# Altium footprint library IC_Samsung_SIP-007AFS001_eec_0.PcbLib: 1 footprints
Each footprint in its own frame and in the unit in brackets; x right, y up, seen from the top. Pads: shape width x height; smd on the part's side, far side on the other; paste and mask are expansions set on the pad; w line width, h text height; cw(c..) or ccw(c..) is an arc to the next point about the centre after c.
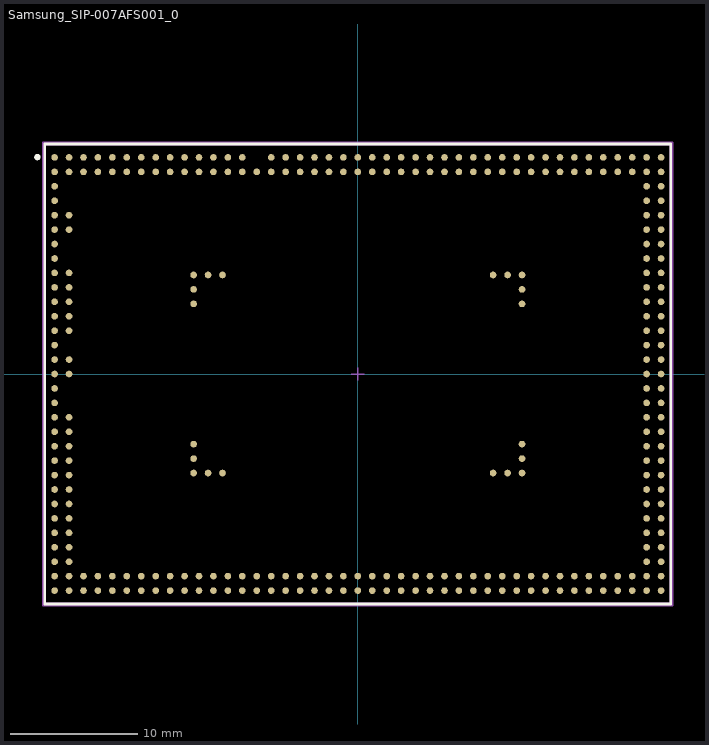
[diagram p0: the footprint, top view; thin cyan lines are the x and y axes]

## Samsung_SIP-007AFS001_0 [mm]
pads (292):
  round 0.52 smd paste+0 mask+0: PA1(-23.73,16.95) PA2(-22.6,16.95) PA3(-21.47,16.95) PA4(-20.34,16.95) PA5(-19.21,16.95) PA6(-18.08,16.95) PA7(-16.95,16.95) PA8(-15.82,16.95) PA9(-14.69,16.95) PA10(-13.56,16.95) PA11(-12.43,16.95) PA12(-11.3,16.95) PA13(-10.17,16.95) PA14(-9.04,16.95) PA16(-6.78,16.95) PA17(-5.65,16.95) PA18(-4.52,16.95) PA19(-3.39,16.95) PA20(-2.26,16.95) PA21(-1.13,16.95) PA22(0,16.95) PA23(1.13,16.95) PA24(2.26,16.95) PA25(3.39,16.95) PA26(4.52,16.95) PA27(5.65,16.95) PA28(6.78,16.95) PA29(7.91,16.95) PA30(9.04,16.95) PA31(10.17,16.95) PA32(11.3,16.95) PA33(12.43,16.95) PA34(13.56,16.95) PA35(14.69,16.95) PA36(15.82,16.95) PA37(16.95,16.95) PA38(18.08,16.95) PA39(19.21,16.95) PA40(20.34,16.95) PA41(21.47,16.95) PA42(22.6,16.95) PA43(23.73,16.95) PAA1(-23.73,-5.65) PAA2(-22.6,-5.65) PAA42(22.6,-5.65) PAA43(23.73,-5.65) PAB1(-23.73,-6.78) PAB2(-22.6,-6.78) PAB42(22.6,-6.78) PAB43(23.73,-6.78) PAC1(-23.73,-7.91) PAC2(-22.6,-7.91) PAC42(22.6,-7.91) PAC43(23.73,-7.91) PAD1(-23.73,-9.04) PAD2(-22.6,-9.04) PAD42(22.6,-9.04) PAD43(23.73,-9.04) PAE1(-23.73,-10.17) PAE2(-22.6,-10.17) PAE42(22.6,-10.17) PAE43(23.73,-10.17) PAF1(-23.73,-11.3) PAF2(-22.6,-11.3) PAF42(22.6,-11.3) PAF43(23.73,-11.3) PAG1(-23.73,-12.43) PAG2(-22.6,-12.43) PAG42(22.6,-12.43) PAG43(23.73,-12.43) PAH1(-23.73,-13.56) PAH2(-22.6,-13.56) PAH42(22.6,-13.56) PAH43(23.73,-13.56) PAJ1(-23.73,-14.69) PAJ2(-22.6,-14.69) PAJ42(22.6,-14.69) PAJ43(23.73,-14.69) PAK1(-23.73,-15.82) PAK2(-22.6,-15.82) PAK3(-21.47,-15.82) PAK4(-20.34,-15.82) PAK5(-19.21,-15.82) PAK6(-18.08,-15.82) PAK7(-16.95,-15.82) PAK8(-15.82,-15.82) PAK9(-14.69,-15.82) PAK10(-13.56,-15.82) PAK11(-12.43,-15.82) PAK12(-11.3,-15.82) PAK13(-10.17,-15.82) PAK14(-9.04,-15.82) PAK15(-7.91,-15.82) PAK16(-6.78,-15.82) PAK17(-5.65,-15.82) PAK18(-4.52,-15.82) PAK19(-3.39,-15.82) PAK20(-2.26,-15.82) PAK21(-1.13,-15.82) PAK22(0,-15.82) PAK23(1.13,-15.82) PAK24(2.26,-15.82) PAK25(3.39,-15.82) PAK26(4.52,-15.82) PAK27(5.65,-15.82) PAK28(6.78,-15.82) PAK29(7.91,-15.82) PAK30(9.04,-15.82) PAK31(10.17,-15.82) PAK32(11.3,-15.82) PAK33(12.43,-15.82) PAK34(13.56,-15.82) PAK35(14.69,-15.82) PAK36(15.82,-15.82) PAK37(16.95,-15.82) PAK38(18.08,-15.82) PAK39(19.21,-15.82) PAK40(20.34,-15.82) PAK41(21.47,-15.82) PAK42(22.6,-15.82) PAK43(23.73,-15.82) PAL1(-23.73,-16.95) PAL2(-22.6,-16.95) PAL3(-21.47,-16.95) PAL4(-20.34,-16.95) PAL5(-19.21,-16.95) PAL6(-18.08,-16.95) PAL7(-16.95,-16.95) PAL8(-15.82,-16.95) PAL9(-14.69,-16.95) PAL10(-13.56,-16.95) PAL11(-12.43,-16.95) PAL12(-11.3,-16.95) PAL13(-10.17,-16.95) PAL14(-9.04,-16.95) PAL15(-7.91,-16.95) PAL16(-6.78,-16.95) PAL17(-5.65,-16.95) PAL18(-4.52,-16.95) PAL19(-3.39,-16.95) PAL20(-2.26,-16.95) PAL21(-1.13,-16.95) PAL22(0,-16.95) PAL23(1.13,-16.95) PAL24(2.26,-16.95) PAL25(3.39,-16.95) PAL26(4.52,-16.95) PAL27(5.65,-16.95) PAL28(6.78,-16.95) PAL29(7.91,-16.95) PAL30(9.04,-16.95) PAL31(10.17,-16.95) PAL32(11.3,-16.95) PAL33(12.43,-16.95) PAL34(13.56,-16.95) PAL35(14.69,-16.95) PAL36(15.82,-16.95) PAL37(16.95,-16.95) PAL38(18.08,-16.95) PAL39(19.21,-16.95) PAL40(20.34,-16.95) PAL41(21.47,-16.95) PAL42(22.6,-16.95) PAL43(23.73,-16.95) PB1(-23.73,15.82) PB2(-22.6,15.82) PB3(-21.47,15.82) PB4(-20.34,15.82) PB5(-19.21,15.82) PB6(-18.08,15.82) PB7(-16.95,15.82) PB8(-15.82,15.82) PB9(-14.69,15.82) PB10(-13.56,15.82) PB11(-12.43,15.82) PB12(-11.3,15.82) PB13(-10.17,15.82) PB14(-9.04,15.82) PB15(-7.91,15.82) PB16(-6.78,15.82) PB17(-5.65,15.82) PB18(-4.52,15.82) PB19(-3.39,15.82) PB20(-2.26,15.82) PB21(-1.13,15.82) PB22(0,15.82) PB23(1.13,15.82) PB24(2.26,15.82) PB25(3.39,15.82) PB26(4.52,15.82) PB27(5.65,15.82) PB28(6.78,15.82) PB29(7.91,15.82) PB30(9.04,15.82) PB31(10.17,15.82) PB32(11.3,15.82) PB33(12.43,15.82) PB34(13.56,15.82) PB35(14.69,15.82) PB36(15.82,15.82) PB37(16.95,15.82) PB38(18.08,15.82) PB39(19.21,15.82) PB40(20.34,15.82) PB41(21.47,15.82) PB42(22.6,15.82) PB43(23.73,15.82) PC1(-23.73,14.69) PC42(22.6,14.69) PC43(23.73,14.69) PD1(-23.73,13.56) PD42(22.6,13.56) PD43(23.73,13.56) PE1(-23.73,12.43) PE2(-22.6,12.43) PE42(22.6,12.43) PE43(23.73,12.43) PF1(-23.73,11.3) PF2(-22.6,11.3) PF42(22.6,11.3) PF43(23.73,11.3) PG1(-23.73,10.17) PG42(22.6,10.17) PG43(23.73,10.17) PH1(-23.73,9.04) PH42(22.6,9.04) PH43(23.73,9.04) PJ1(-23.73,7.91) PJ2(-22.6,7.91) PJ42(22.6,7.91) PJ43(23.73,7.91) PK1(-23.73,6.78) PK2(-22.6,6.78) PK42(22.6,6.78) PK43(23.73,6.78) PL1(-23.73,5.65) PL2(-22.6,5.65) PL42(22.6,5.65) PL43(23.73,5.65) PM1(-23.73,4.52) PM2(-22.6,4.52) PM42(22.6,4.52) PM43(23.73,4.52) PN1(-23.73,3.39) PN2(-22.6,3.39) PN42(22.6,3.39) PN43(23.73,3.39) PP1(-23.73,2.26) PP42(22.6,2.26) PP43(23.73,2.26) PR1(-23.73,1.13) PR2(-22.6,1.13) PR42(22.6,1.13) PR43(23.73,1.13) PT1(-23.73,0) PT2(-22.6,0) PT42(22.6,0) PT43(23.73,0) PU1(-23.73,-1.13) PU42(22.6,-1.13) PU43(23.73,-1.13) PV1(-23.73,-2.26) PV42(22.6,-2.26) PV43(23.73,-2.26) PW1(-23.73,-3.39) PW2(-22.6,-3.39) PW42(22.6,-3.39) PW43(23.73,-3.39) PY1(-23.73,-4.52) PY2(-22.6,-4.52) PY42(22.6,-4.52) PY43(23.73,-4.52) TP282(-12.85,7.75) TP283(-11.72,7.75) TP284(-10.59,7.75) TP285(10.59,7.75) TP286(11.72,7.75) TP287(12.85,7.75) TP288(12.85,6.62) TP289(12.85,5.49) TP290(12.85,-5.49) TP291(12.85,-6.62) TP292(12.85,-7.75) TP293(11.72,-7.75) TP294(10.59,-7.75) TP295(-10.59,-7.75) TP296(-11.72,-7.75) TP297(-12.85,-7.75) TP298(-12.85,-6.62) TP299(-12.85,-5.49) TP300(-12.85,5.49) TP301(-12.85,6.62)
Top Overlay:
  circle w0.25: c-25.075,16.975 r0.125
  lines w0.2: -24.5,-18 24.5,-18 24.5,18 -24.5,18 -24.5,-18
Mechanical 10:
  lines w0.2: -24.6,-18.1 24.6,-18.1 24.6,18.1 -24.6,18.1 -24.6,-18.1
  text ".Designator" at 0,0.188 h1
Mechanical 12:
  lines w0.2: -24.5,-18 24.5,-18 24.5,18 -24.5,18 -24.5,-18
Mechanical 15:
  lines w0.1: -0.5,0 0.5,0 ; 0,-0.5 0,0.5
  lines w0.2: -24.6,-18.1 24.6,-18.1 24.6,18.1 -24.6,18.1 -24.6,-18.1
3D body "IC_Samsung_SIP-007AFS001_eec.STEP": height 0.25, standoff 0, extent -24.6,-18.1 24.6,18.1